# EAGLE library part L6234PD (library L6234PD)
The L6234 is a triple half bridge to drive a brushless DC motor, SMT , 7 to 52v, 5A peak current
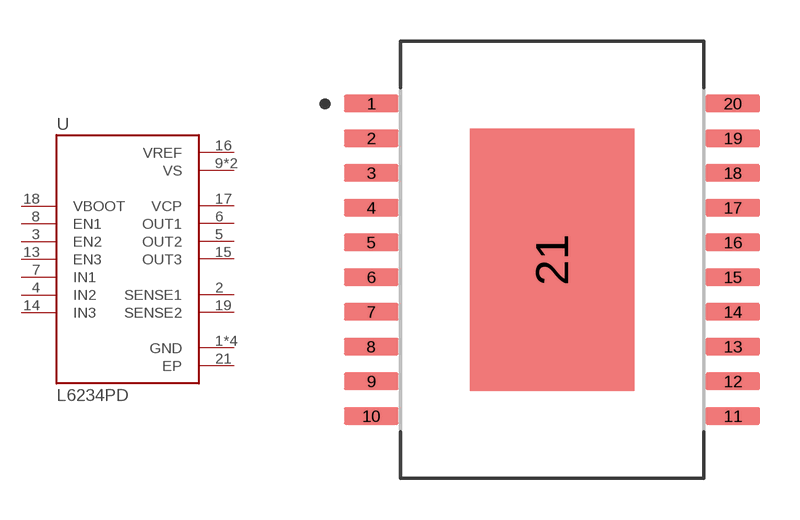
[diagram p0: symbol with the pads of SOIC127P1420X360-21N; footprint SOIC127P1420X360-21N]

Designator prefix U

## L6234PD (Description: Driver; 52v; Powerso20; Surface Mount Mtg. Type; 5 a _Pulsed_ o/p High Level; 7v; Digi-Key_Part_Number: 497-2944-5-ND; Digi-Key_Purchase_URL: https://www.digikey.com.cn/product-detail/zh/stmicroelectronics/L6234PD/497-2944-5-ND/634708?utm_source=snapeda&utm_medium=aggregator&utm_campaign=symbol; MF: STMicroelectronics; MP: L6234PD; Package: SOIC-20 STMicroelectronics)  [SOIC127P1420X360-21N]
1  GND  pwr
2  SENSE1  out
3  EN2  in
4  IN2  in
5  OUT2  out
6  OUT1  out
7  IN1  in
8  EN1  in
9  VS  pwr
10  GND  pwr
11  GND  pwr
12  VS  pwr
13  EN3  in
14  IN3  in
15  OUT3  out
16  VREF  pwr
17  VCP  out
18  VBOOT  in
19  SENSE2  out
20  GND  pwr
21  EP  pwr

## Footprint SOIC127P1420X360-21N (pad centres in mm)
smd 1.99 x 0.63: 1 -6.61,5.715; 2 -6.61,4.445; 3 -6.61,3.175; 4 -6.61,1.905; 5 -6.61,0.635; 6 -6.61,-0.635; 7 -6.61,-1.905; 8 -6.61,-3.175; 9 -6.61,-4.445; 10 -6.61,-5.715; 11 6.61,-5.715; 12 6.61,-4.445; 13 6.61,-3.175; 14 6.61,-1.905; 15 6.61,-0.635; 16 6.61,0.635; 17 6.61,1.905; 18 6.61,3.175; 19 6.61,4.445; 20 6.61,5.715
smd 6 x 9.6: 21 0,0